# Altium footprint library Crazy_PCB.PcbLib: 155 footprints (part 4 of 10)
Each footprint in its own frame and in the unit in brackets; x right, y up, seen from the top. Pads: shape width x height; smd on the part's side, far side on the other; paste and mask are expansions set on the pad; w line width, h text height; cw(c..) or ccw(c..) is an arc to the next point about the centre after c.
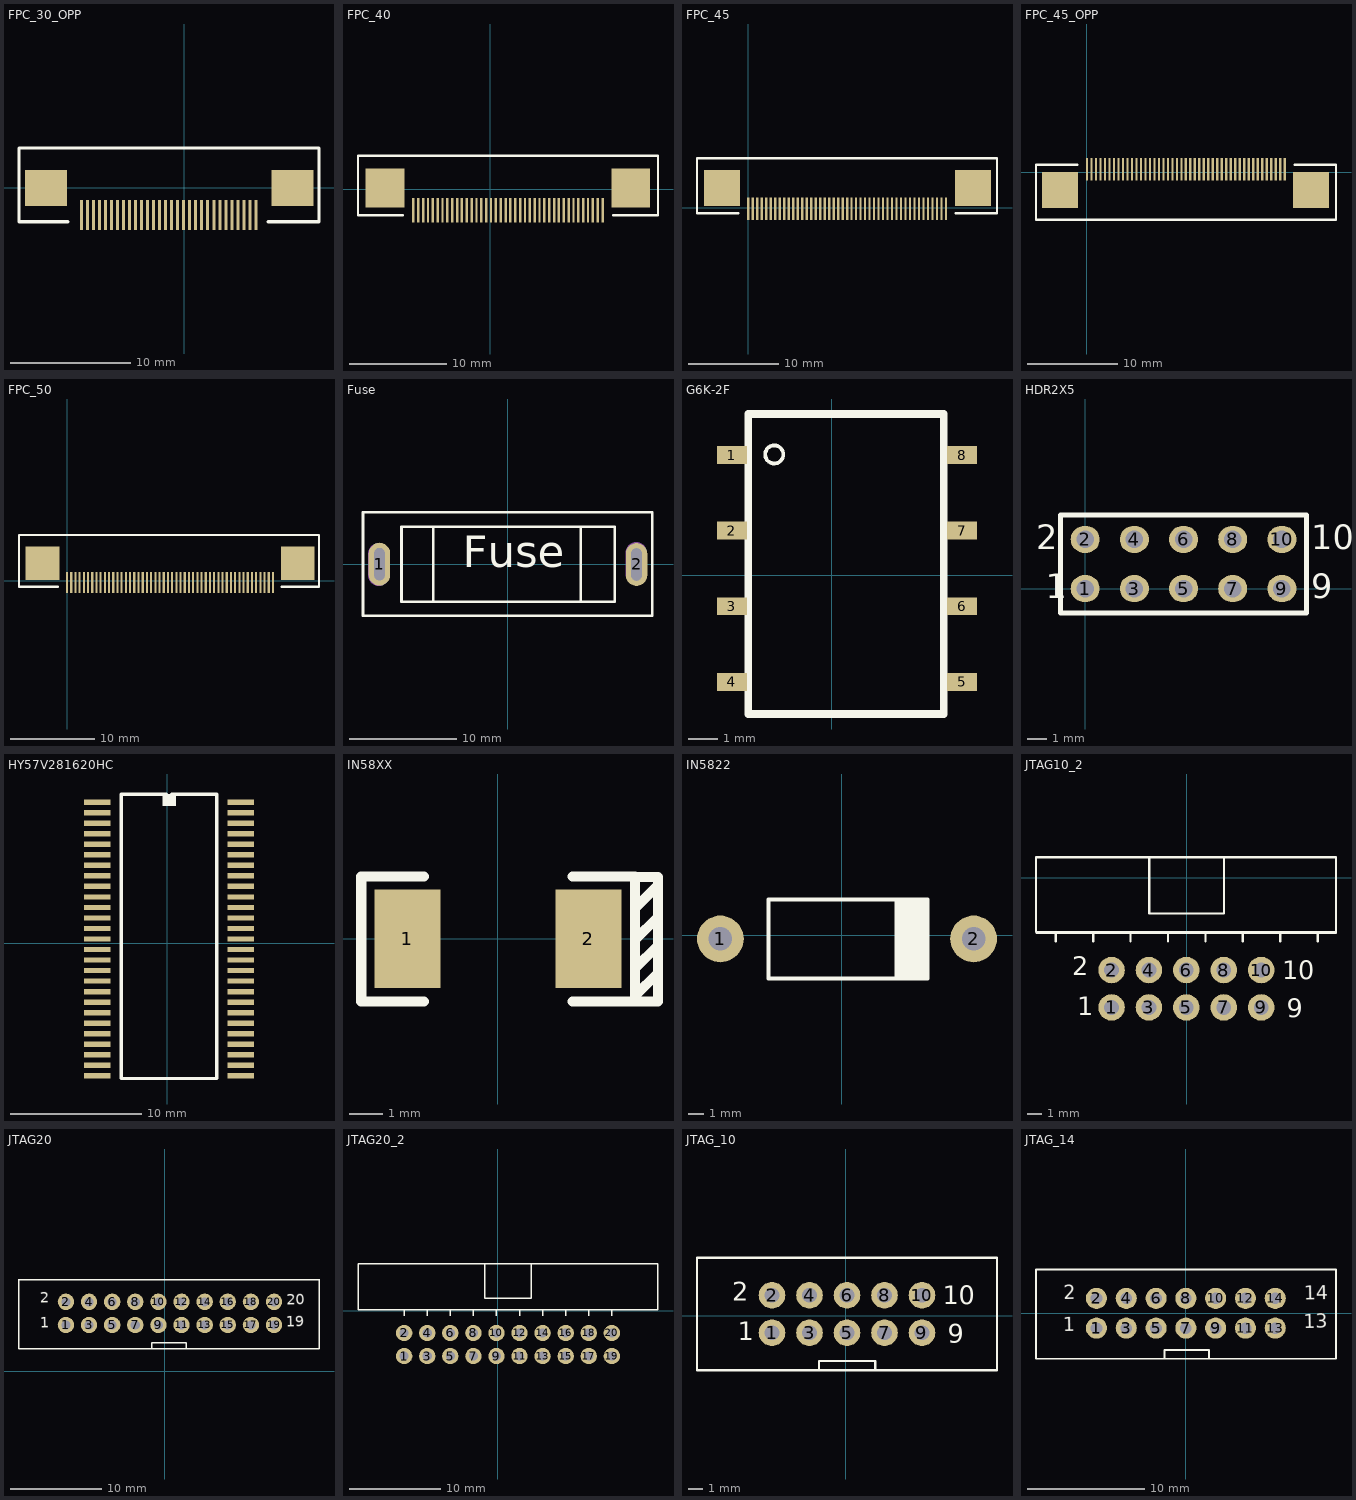
[diagram p3: the footprints below, top view; thin cyan lines are the x and y axes]

## FPC_30_OPP [mm]
pads (32):
  rect 0.25x2.5 smd: 1(5.947,-2.284) 2(5.447,-2.284) 3(4.947,-2.284) 4(4.447,-2.284) 5(3.947,-2.284) 6(3.447,-2.284) 7(2.947,-2.284) 8(2.447,-2.284) 9(1.947,-2.284) 10(1.447,-2.284) 11(0.947,-2.284) 12(0.447,-2.284) 13(-0.053,-2.284) 14(-0.553,-2.284) 15(-1.053,-2.284) 16(-1.553,-2.284) 17(-2.053,-2.284) 18(-2.553,-2.284) 19(-3.053,-2.284) 20(-3.553,-2.284) 21(-4.053,-2.284) 22(-4.553,-2.284) 23(-5.053,-2.284) 24(-5.553,-2.284) 25(-6.053,-2.284) 26(-6.553,-2.284) 27(-7.053,-2.284) 28(-7.553,-2.284) 29(-8.053,-2.284) 30(-8.553,-2.284)
  rect 3.5x3 smd: ""(-11.508,-0.02) ""(8.99,-0.02)
Top Overlay:
  lines w0.254: -9.687,-2.831 -13.75,-2.831 -13.75,3.319 11.2,3.319 11.2,-2.831 6.95,-2.831

## FPC_40 [mm]
pads (42):
  rect 0.25x2.5 smd: 1(-7.935,-2.138) 2(-7.435,-2.138) 3(-6.935,-2.138) 4(-6.435,-2.138) 5(-5.935,-2.138) 6(-5.435,-2.138) 7(-4.935,-2.138) 8(-4.435,-2.138) 9(-3.935,-2.138) 10(-3.435,-2.138) 11(-2.935,-2.138) 12(-2.435,-2.138) 13(-1.935,-2.138) 14(-1.435,-2.138) 15(-0.935,-2.138) 16(-0.435,-2.138) 17(0.065,-2.138) 18(0.565,-2.138) 19(1.065,-2.138) 20(1.565,-2.138) 21(2.065,-2.138) 22(2.565,-2.138) 23(3.065,-2.138) 24(3.565,-2.138) 25(4.065,-2.138) 26(4.565,-2.138) 27(5.065,-2.138) 28(5.565,-2.138) 29(6.065,-2.138) 30(6.565,-2.138) 31(7.065,-2.138) 32(7.565,-2.138) 33(8.065,-2.138) 34(8.565,-2.138) 35(9.065,-2.138) 36(9.565,-2.138) 37(10.065,-2.138) 38(10.565,-2.138) 39(11.065,-2.138) 40(11.565,-2.138)
  rect 4x4 smd: ""(-10.856,0.162) ""(14.472,0.162)
Top Overlay:
  lines w0.254: -9.035,-2.663 -13.65,-2.663 -13.65,3.487 17.28,3.487 17.28,-2.663 12.69,-2.663

## FPC_45 [mm]
height 2.1
pads (47):
  rect 0.25x2.5 smd: 1(0.003,-0.086) 2(0.503,-0.086) 3(1.003,-0.086) 4(1.503,-0.086) 5(2.003,-0.086) 6(2.503,-0.086) 7(3.003,-0.086) 8(3.503,-0.086) 9(4.003,-0.086) 10(4.503,-0.086) 11(5.003,-0.086) 12(5.503,-0.086) 13(6.003,-0.086) 14(6.503,-0.086) 15(7.003,-0.086) 16(7.503,-0.086) 17(8.003,-0.086) 18(8.503,-0.086) 19(9.003,-0.086) 20(9.503,-0.086) 21(10.003,-0.086) 22(10.503,-0.086) 23(11.003,-0.086) 24(11.503,-0.086) 25(12.003,-0.086) 26(12.503,-0.086) 27(13.003,-0.086) 28(13.503,-0.086) 29(14.003,-0.086) 30(14.503,-0.086) 31(15.003,-0.086) 32(15.503,-0.086) 33(16.003,-0.086) 34(16.503,-0.086) 35(17.003,-0.086) 36(17.503,-0.086) 37(18.003,-0.086) 38(18.503,-0.086) 39(19.003,-0.086) 40(19.503,-0.086) 41(20.003,-0.086) 42(20.503,-0.086) 43(21.003,-0.086) 44(21.503,-0.086) 45(22.003,-0.086)
  rect 4x4 smd: ""(-2.918,2.2) ""(25.022,2.2)
Top Overlay:
  lines w0.254: -1.097,-0.611 -5.712,-0.611 -5.712,5.539 27.689,5.539 27.689,-0.611 23.103,-0.611

## FPC_45_OPP [mm]
height 2.1
pads (47):
  rect 0.25x2.5 smd: 1(0.016,0.316) 2(0.516,0.316) 3(1.016,0.316) 4(1.516,0.316) 5(2.016,0.316) 6(2.516,0.316) 7(3.016,0.316) 8(3.516,0.316) 9(4.016,0.316) 10(4.516,0.316) 11(5.016,0.316) 12(5.516,0.316) 13(6.016,0.316) 14(6.516,0.316) 15(7.016,0.316) 16(7.516,0.316) 17(8.016,0.316) 18(8.516,0.316) 19(9.016,0.316) 20(9.516,0.316) 21(10.016,0.316) 22(10.516,0.316) 23(11.016,0.316) 24(11.516,0.316) 25(12.016,0.316) 26(12.516,0.316) 27(13.016,0.316) 28(13.516,0.316) 29(14.016,0.316) 30(14.516,0.316) 31(15.016,0.316) 32(15.516,0.316) 33(16.016,0.316) 34(16.516,0.316) 35(17.016,0.316) 36(17.516,0.316) 37(18.016,0.316) 38(18.516,0.316) 39(19.016,0.316) 40(19.516,0.316) 41(20.016,0.316) 42(20.516,0.316) 43(21.016,0.316) 44(21.516,0.316) 45(22.016,0.316)
  rect 4x4 smd: ""(-3.003,-1.97) ""(24.937,-1.97)
Top Overlay:
  lines w0.254: -1.084,0.841 -5.67,0.841 -5.67,-5.309 27.731,-5.309 27.731,0.841 23.116,0.841

## FPC_50 [mm]
pads (52):
  rect 0.25x2.5 smd: 1(-0.004,-0.169) 2(0.496,-0.169) 3(0.996,-0.169) 4(1.496,-0.169) 5(1.996,-0.169) 6(2.496,-0.169) 7(2.996,-0.169) 8(3.496,-0.169) 9(3.996,-0.169) 10(4.496,-0.169) 11(4.996,-0.169) 12(5.496,-0.169) 13(5.996,-0.169) 14(6.496,-0.169) 15(6.996,-0.169) 16(7.496,-0.169) 17(7.996,-0.169) 18(8.496,-0.169) 19(8.996,-0.169) 20(9.496,-0.169) 21(9.996,-0.169) 22(10.496,-0.169) 23(10.996,-0.169) 24(11.496,-0.169) 25(11.996,-0.169) 26(12.496,-0.169) 27(12.996,-0.169) 28(13.496,-0.169) 29(13.996,-0.169) 30(14.496,-0.169) 31(14.996,-0.169) 32(15.496,-0.169) 33(15.996,-0.169) 34(16.496,-0.169) 35(16.996,-0.169) 36(17.496,-0.169) 37(17.996,-0.169) 38(18.496,-0.169) 39(18.996,-0.169) 40(19.496,-0.169) 41(19.996,-0.169) 42(20.496,-0.169) 43(20.996,-0.169) 44(21.496,-0.169) 45(21.996,-0.169) 46(22.496,-0.169) 47(22.996,-0.169) 48(23.496,-0.169) 49(23.996,-0.169) 50(24.496,-0.169)
  rect 4x4 smd: ""(-2.925,2.117) ""(27.428,2.117)
Top Overlay:
  lines w0.254: -1.104,-0.694 -5.719,-0.694 -5.719,5.456 29.968,5.456 29.968,-0.694 25.523,-0.694
3D body: height 1.5, standoff 0, extent -5.846,-0.821 30.095,5.583

## Fuse [mm]
pads (2):
  oval 2x4 hole 1 slot 3 at 90 deg: 1(-11.97,0.015) 2(11.97,-0.015)
Top Overlay:
  lines w0.25: -6.95,-3.345 -6.95,3.395 ; 6.77,-3.395 6.77,3.465 ; -13.54,-4.785 13.43,-4.785 13.43,4.845 -13.51,4.845 -13.51,-4.755 -13.54,-4.785 ; -9.92,-3.485 9.93,-3.485 9.93,3.495 -9.92,3.495 -9.92,-3.485
  text "Fuse" at -4.191,-1.27 h5.08
Mechanical 1:
  lines w1: -12.03,-0.975 -12.03,1.025 ; 11.94,-1.005 11.94,0.995
Mechanical 2:
  lines w2.016: -12.03,-1.005 -12.03,0.995 ; 11.94,-0.935 11.94,1.065

## G6K-2F [mm]
pads (8):
  rect 1x0.6 smd: 1(-3.36,4.03) 2(-3.36,1.49) 3(-3.36,-1.05) 4(-3.36,-3.59) 5(4.37,-3.59) 6(4.37,-1.05) 7(4.37,1.49) 8(4.37,4.03)
Top Overlay:
  circle w0.127: c-1.94,4.05 r0.304
  lines w0.254: -2.81,-4.67 3.75,-4.67 3.75,5.41 -2.81,5.41 -2.81,-4.67

## HDR2X5 [mm] "Connector; Header; 5x2 Position"
pads (10):
  oval 1.5x1.4 hole 0.9: 1(0,0) 2(0,2.54) 3(2.54,0) 4(2.54,2.54) 5(5.08,0) 6(5.08,2.54) 7(7.62,0) 8(7.62,2.54) 9(10.16,0) 10(10.16,2.54)
Top Overlay:
  lines w0.254: -1.27,-1.27 11.43,-1.27 11.43,3.81 -1.27,3.81 -1.27,-1.27
  text "10" at 11.684,2.032 h1.27
  text "9" at 11.684,-0.508 h1.27
  text "1" at -2.032,-0.508 h1.27
  text "2" at -2.54,2.032 h1.27

## HY57V281620HC [mm]
pads (54):
  rect 2x0.4 smd: 1(-5.339,10.736) 2(-5.339,9.936) 3(-5.339,9.136) 4(-5.339,8.336) 5(-5.339,7.536) 6(-5.339,6.736) 7(-5.339,5.936) 8(-5.339,5.136) 9(-5.339,4.336) 10(-5.339,3.535) 11(-5.339,2.735) 12(-5.339,1.935) 13(-5.339,1.135) 14(-5.339,0.335) 15(-5.339,-0.465) 16(-5.339,-1.265) 17(-5.339,-2.065) 18(-5.339,-2.865) 19(-5.339,-3.665) 20(-5.339,-4.465) 21(-5.339,-5.265) 22(-5.339,-6.065) 23(-5.339,-6.865) 24(-5.339,-7.665) 25(-5.339,-8.465) 26(-5.339,-9.265) 27(-5.339,-10.065) 28(5.583,-10.065) 29(5.583,-9.265) 30(5.583,-8.465) 31(5.583,-7.665) 32(5.583,-6.865) 33(5.583,-6.065) 34(5.583,-5.265) 35(5.583,-4.465) 36(5.583,-3.665) 37(5.583,-2.865) 38(5.583,-2.065) 39(5.583,-1.265) 40(5.583,-0.465) 41(5.583,0.335) 42(5.583,1.135) 43(5.583,1.935) 44(5.583,2.735) 45(5.583,3.535) 46(5.583,4.336) 47(5.583,5.136) 48(5.583,5.936) 49(5.583,6.736) 50(5.583,7.536) 51(5.583,8.336) 52(5.583,9.136) 53(5.583,9.936) 54(5.583,10.736)
Top Overlay:
  rectangle: -0.361,10.455 0.655,11.358
  lines w0.254: -0.078,11.336 -3.504,11.336 -3.504,-10.265 3.748,-10.265 3.748,11.336 0.322,11.336

## IN58XX [mm]
pads (2):
  rect 2x3 smd: 1(-2.75,0) 2(2.75,0)
Top Overlay:
  lines w0.305: -2.246,-1.905 -4.151,-1.905 -4.151,1.886 -2.246,1.886 ; 2.266,-1.905 4.171,-1.905 ; 2.266,1.886 4.171,1.886 4.171,-1.905 ; 4.171,-1.737 4.866,-1.041 ; 4.171,-0.898 4.866,-0.203 ; 4.171,-0.035 4.866,0.66 ; 4.178,1.88 4.866,1.88 4.866,-1.905 4.171,-1.905 ; 4.206,0.965 4.866,1.626

## IN5822 [mm]
height 5
pads (2):
  round 3 hole 1.5: 1(-7.77,-0.22) 2(8.47,-0.22)
Top Overlay:
  rectangle: 3.41,-2.763 5.629,2.28
  lines w0.254: 5.529,-2.76 -4.68,-2.76 -4.68,2.31 5.529,2.31

## JTAG10_2 [mm]
pads (10):
  round 1.8 hole 1: 1(-5.09,-8.81) 2(-5.09,-6.27) 3(-2.55,-8.81) 4(-2.55,-6.27) 5(-0.01,-8.81) 6(-0.01,-6.27) 7(2.53,-8.81) 8(2.53,-6.27) 9(5.07,-8.81) 10(5.07,-6.27)
Top Overlay:
  lines w0.152: -10.17,-3.73 10.15,-3.73 ; -8.877,-4.329 -8.877,-3.694 ; -6.337,-4.329 -6.337,-3.694 ; -3.797,-4.329 -3.797,-3.694 ; -2.527,1.386 -2.527,-2.424 2.553,-2.424 2.553,1.386 ; -1.257,-4.329 -1.257,-3.694 ; 1.283,-4.329 1.283,-3.694 ; 3.823,-4.329 3.823,-3.694 ; 6.363,-4.329 6.363,-3.694 ; 8.903,-4.329 8.903,-3.694 ; -10.22,-3.694 -10.22,1.386 10.15,1.386 10.15,-3.694 -10.22,-3.694
  text "2" at -7.77,-6.64 h1.27
  text "1" at -7.42,-9.33 h1.27
  text "9" at 6.81,-9.49 h1.27
  text "10" at 6.49,-6.88 h1.27
3D body: height 5, standoff 0, extent -10.219,-3.693 10.149,1.385

## JTAG20 [mm]
pads (20):
  round 1.8 hole 1: 1(-10.877,5.106) 2(-10.877,7.646) 3(-8.337,5.106) 4(-8.337,7.646) 5(-5.797,5.106) 6(-5.797,7.646) 7(-3.257,5.106) 8(-3.257,7.646) 9(-0.717,5.106) 10(-0.717,7.646) 11(1.823,5.106) 12(1.823,7.646) 13(4.363,5.106) 14(4.363,7.646) 15(6.903,5.106) 16(6.903,7.646) 17(9.443,5.106) 18(9.443,7.646) 19(11.983,5.106) 20(11.983,7.646)
Top Overlay:
  lines w0.152: -16.03,10.12 -16.03,2.5 16.92,2.5 16.92,10.12 ; -16.017,10.096 16.9,10.096 ; -1.445,2.5 -1.445,3.135 2.365,3.135 2.365,2.5
  text "1" at -13.71,4.44 h2
  text "2" at -13.68,7.18 h2
  text "19" at 13.34,4.53 h2
  text "20" at 13.36,6.95 h2
3D body: height 5, standoff 0, extent -16.106,2.424 16.996,10.196

## JTAG20_2 [mm]
pads (20):
  round 1.8 hole 1: 1(-10.327,-5.014) 2(-10.327,-2.474) 3(-7.787,-5.014) 4(-7.787,-2.474) 5(-5.247,-5.014) 6(-5.247,-2.474) 7(-2.707,-5.014) 8(-2.707,-2.474) 9(-0.167,-5.014) 10(-0.167,-2.474) 11(2.373,-5.014) 12(2.373,-2.474) 13(4.913,-5.014) 14(4.913,-2.474) 15(7.453,-5.014) 16(7.453,-2.474) 17(9.993,-5.014) 18(9.993,-2.474) 19(12.533,-5.014) 20(12.533,-2.474)
Top Overlay:
  lines w0.152: -10.327,-0.569 -10.327,0.066 ; -7.787,-0.569 -7.787,0.066 ; -5.247,-0.569 -5.247,0.066 ; -2.707,-0.569 -2.707,0.066 ; -1.437,5.146 -1.437,1.336 3.643,1.336 3.643,5.146 ; -0.167,-0.569 -0.167,0.066 ; 2.373,-0.569 2.373,0.066 ; 4.913,-0.569 4.913,0.066 ; 7.453,-0.569 7.453,0.066 ; 9.993,-0.569 9.993,0.066 ; 12.533,-0.569 12.533,0.066 ; -15.407,0.066 -15.407,5.146 17.613,5.146 17.613,0.066 -15.407,0.066
3D body: height 5, standoff 0, extent -15.483,-0.645 17.689,5.222

## JTAG_10 [mm]
pads (10):
  round 1.8 hole 1: 1(-4.99,-1.16) 2(-4.99,1.38) 3(-2.45,-1.16) 4(-2.45,1.38) 5(0.09,-1.16) 6(0.09,1.38) 7(2.63,-1.16) 8(2.63,1.38) 9(5.17,-1.16) 10(5.17,1.38)
Top Overlay:
  lines w0.152: -1.815,-3.7 -1.815,-3.065 1.995,-3.065 1.995,-3.7 ; -10.07,-3.7 -10.07,3.92 10.25,3.92 10.25,-3.7 -10.07,-3.7
  text "2" at -7.67,1.01 h1.27
  text "1" at -7.32,-1.68 h1.27
  text "9" at 6.91,-1.84 h1.27
  text "10" at 6.59,0.77 h1.27
3D body: height 5, standoff 0, extent -10.069,-3.699 10.249,3.919

## JTAG_14 [mm]
pads (14):
  round 1.8 hole 1: 1(-7.62,-1.27) 2(-7.62,1.27) 3(-5.08,-1.27) 4(-5.08,1.27) 5(-2.54,-1.27) 6(-2.54,1.27) 7(0,-1.27) 8(0,1.27) 9(2.54,-1.27) 10(2.54,1.27) 11(5.08,-1.27) 12(5.08,1.27) 13(7.62,-1.27) 14(7.62,1.27)
Top Overlay:
  lines w0.152: -12.773,3.744 -12.773,-3.876 12.797,-3.876 12.797,3.72 -12.76,3.72 ; -1.828,-3.766 -1.828,-3.131 1.982,-3.131 1.982,-3.766
  text "1" at -10.453,-1.936 h2
  text "2" at -10.423,0.804 h2
  text "13" at 10.067,-1.666 h2
  text "14" at 10.087,0.754 h2
3D body: height 5, standoff 0, extent -12.849,-3.952 12.873,3.82